# Altium integrated library BH-AAA-A1AJ001.IntLib: 1 symbol
Pins are listed as number, name and electrical type; pins without a type are passive.

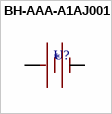
[diagram p0: symbol BH-AAA-A1AJ001]

## BH-AAA-A1AJ001
designator U?  (value not drawn)
Battery Connectors. -10~80C Battery holder Nickel plated No. 7 - ROHS; Manufacturer: MYOUNG; Component Type: Integrated Circuits; Design Item ID: BH-AAA-A1AJ001; Value: *; JLCPCB Part #: C5290189; Manufacturer Part Number: BH-AAA-A1AJ001
footprint BH-AAA-A1AJ001 (BAT-TH_BH-AAA-A1AJ001)
pins: 1 -, 2 +